# Altium footprint library IMU.PcbLib: 3 footprints
Each footprint in its own frame and in the unit in brackets; x right, y up, seen from the top. Pads: shape width x height; smd on the part's side, far side on the other; paste and mask are expansions set on the pad; w line width, h text height; cw(c..) or ccw(c..) is an arc to the next point about the centre after c.
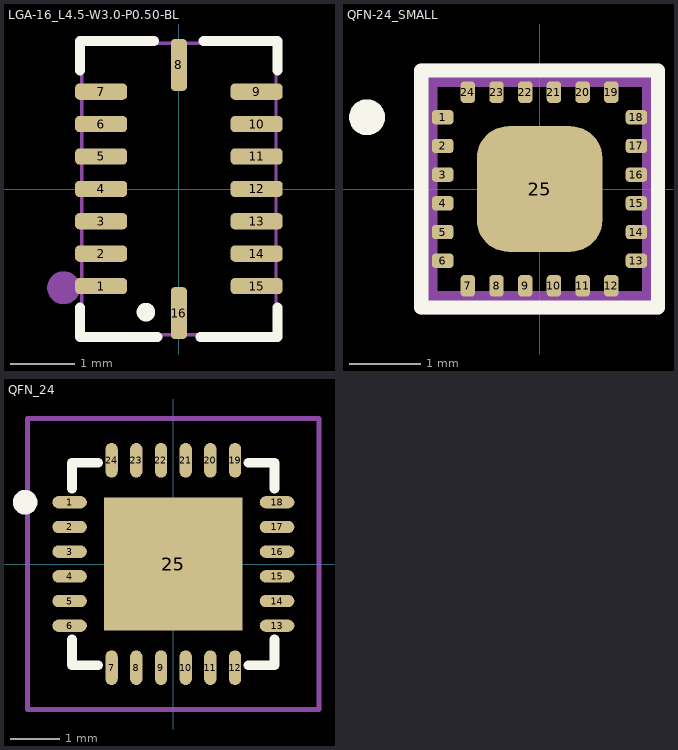
[diagram p0: the footprints below, top view; thin cyan lines are the x and y axes]

## LGA-16_L4.5-W3.0-P0.50-BL [mm]
pads (16):
  rrect50% 0.8x0.25 smd: 1(-1.2,-1.498) 2(-1.2,-0.998) 3(-1.2,-0.498) 4(-1.2,0.002) 5(-1.2,0.502) 6(-1.2,1.002) 7(-1.2,1.502) 9(1.2,1.502) 10(1.2,1.002) 11(1.2,0.502) 12(1.2,0.002) 13(1.2,-0.498) 14(1.2,-0.998) 15(1.2,-1.498)
  rrect50% 0.25x0.8 smd: 8(0,1.915) 16(0,-1.915)
Top Overlay:
  circle w0.25: c-0.508,-1.9 r0.018
  lines w0.152: -1.524,-1.827 -1.524,-2.286 -0.329,-2.286 ; -1.524,1.831 -1.524,2.159 -1.524,2.286 -0.381,2.286 ; 0.329,-2.286 1.524,-2.286 1.524,-1.827 ; 0.381,2.286 1.524,2.286 1.524,1.831
Mechanical 6:
  circle w0.254: c-1.778,-1.524 r0.127
Mechanical 15:
  region: -1.44,-2.25 -1.44,-2.225 -1.475,-2.19 -1.525,-2.19 -1.56,-2.225 -1.56,-2.25 -1.56,-2.275 -1.525,-2.31 -1.475,-2.31 -1.44,-2.275 -1.44,-2.25
  region: -0.9,-1.398 -0.9,-1.598 -1.4,-1.598 -1.4,-1.398
  region: -0.9,-0.898 -0.9,-1.098 -1.4,-1.098 -1.4,-0.898
  region: -0.9,-0.398 -0.9,-0.598 -1.4,-0.598 -1.4,-0.398
  region: -0.9,0.102 -0.9,-0.098 -1.4,-0.098 -1.4,0.102
  region: -0.9,0.602 -0.9,0.402 -1.4,0.402 -1.4,0.602
  region: -0.9,1.102 -0.9,0.902 -1.4,0.902 -1.4,1.102
  region: -0.9,1.602 -0.9,1.402 -1.4,1.402 -1.4,1.602
  region: 0.1,1.65 -0.1,1.65 -0.1,2.15 0.1,2.15
  region: 0.9,1.402 0.9,1.602 1.4,1.602 1.4,1.402
  region: 0.9,0.902 0.9,1.102 1.4,1.102 1.4,0.902
  region: 0.9,0.402 0.9,0.602 1.4,0.602 1.4,0.402
  region: 0.9,-0.098 0.9,0.102 1.4,0.102 1.4,-0.098
  region: 0.9,-0.598 0.9,-0.398 1.4,-0.398 1.4,-0.598
  region: 0.9,-1.098 0.9,-0.898 1.4,-0.898 1.4,-1.098
  region: 0.9,-1.598 0.9,-1.398 1.4,-1.398 1.4,-1.598
  region: -0.1,-1.65 0.1,-1.65 0.1,-2.15 -0.1,-2.15
  lines w0.051: -1.5,-2.25 -1.5,2.25 1.5,2.25 1.5,-2.25 -1.5,-2.25
3D body "User Library-LGA-16_l45w30h095.STEP": height 0.95, standoff -0.01, extent -1.5,-2.248 1.5,2.252

## QFN-24_SMALL [mm] "QFN_24_无外部引脚"
height 4.3
pads (25):
  rrect50% 0.3x0.2 smd paste+0 mask+0: 1(-1.35,1) 2(-1.35,0.6) 3(-1.35,0.2) 4(-1.35,-0.2) 5(-1.35,-0.6) 6(-1.35,-1) 13(1.35,-1) 14(1.35,-0.6) 15(1.35,-0.2) 16(1.35,0.2) 17(1.35,0.6) 18(1.35,1)
  rrect50% 0.2x0.3 smd paste+0 mask+0: 7(-1,-1.35) 8(-0.6,-1.35) 9(-0.2,-1.35) 10(0.2,-1.35) 11(0.6,-1.35) 12(1,-1.35) 19(1,1.35) 20(0.6,1.35) 21(0.2,1.35) 22(-0.2,1.35) 23(-0.6,1.35) 24(-1,1.35)
  rrect50% 1.75x1.75 smd paste-1000 mask+0: 25(0,0)
Top Overlay:
  circle w0.25: c-2.406,1 r0.125
  lines w0.2: -1.651,-1.651 1.651,-1.651 1.651,1.651 -1.651,1.651 -1.651,-1.651
Top Paste:
  rectangle: -0.553,-0.553 0.553,0.553
Mechanical 10:
  lines w0.2: -1.65,-1.65 1.65,-1.65 1.65,1.65 -1.65,1.65 -1.65,-1.65
Mechanical 12:
  lines w0.15: -1.5,-1.5 1.5,-1.5 1.5,1.5 -1.5,1.5 -1.5,-1.5
Mechanical 15:
  lines w0.1: -0.5,0 0.5,0 ; 0,-0.5 0,0.5
  lines w0.2: -1.65,-1.65 1.65,-1.65 1.65,1.65 -1.65,1.65 -1.65,-1.65
3D body "IC_TDK_InvenSense_MPU-9250_eec.step": height 1, standoff 0, extent -1.52,-1.52 1.52,1.52

## QFN_24 [mm] "QFN_24"
pads (25):
  oval 0.7x0.25 smd: 1(-2.1,1.25) 2(-2.1,0.75) 3(-2.1,0.25) 4(-2.1,-0.25) 5(-2.1,-0.75) 6(-2.1,-1.25) 13(2.1,-1.25) 14(2.1,-0.75) 15(2.1,-0.25) 16(2.1,0.25) 17(2.1,0.75) 18(2.1,1.25)
  oval 0.25x0.7 smd: 7(-1.25,-2.1) 8(-0.75,-2.1) 9(-0.25,-2.1) 10(0.25,-2.1) 11(0.75,-2.1) 12(1.25,-2.1) 19(1.25,2.1) 20(0.75,2.1) 21(0.25,2.1) 22(-0.25,2.1) 23(-0.75,2.1) 24(-1.25,2.1)
  rect 2.8x2.7 smd: 25(0,0)
Top Overlay:
  circle w0.25: c-3,1.25 r0.125
  lines w0.2: -2.05,-1.525 -2.05,-2.05 -1.525,-2.05 ; -2.05,1.525 -2.05,2.05 -1.525,2.05 ; 1.525,-2.05 2.05,-2.05 2.05,-1.525 ; 1.525,2.05 2.05,2.05 2.05,1.525
Mechanical 15:
  lines w0.1: -0.5,0 0.5,0 ; 0,-0.5 0,0.5 ; -2.95,-2.95 -2.95,2.95 2.95,2.95 2.95,-2.95 -2.95,-2.95
3D body "User Library-mpu-6050_qfn-24.stp": height 0.95, standoff 0.05, extent -2.02,-2.02 2.02,2.02